# Altium schematic symbol library SCH - ARM CORTEX - NXP LPC810M021FN8.SchLib: 1 symbol
Pins are listed as number, name and electrical type; pins without a type are passive.

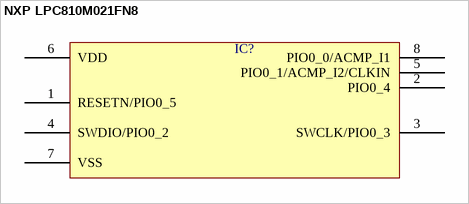
[diagram p0: symbol NXP LPC810M021FN8]

## NXP LPC810M021FN8
designator IC?  (value not drawn)
pins: 1 RESETN/PIO0_5, 2 PIO0_4, 3 SWCLK/PIO0_3, 4 SWDIO/PIO0_2, 5 PIO0_1/ACMP_I2/CLKIN, 6 VDD, 7 VSS, 8 PIO0_0/ACMP_I1